# Altium footprint library WR-DC.PcbLib: 18 footprints (part 1 of 2)
Each footprint in its own frame and in the unit in brackets; x right, y up, seen from the top. Pads: shape width x height; smd on the part's side, far side on the other; paste and mask are expansions set on the pad; w line width, h text height; cw(c..) or ccw(c..) is an arc to the next point about the centre after c.
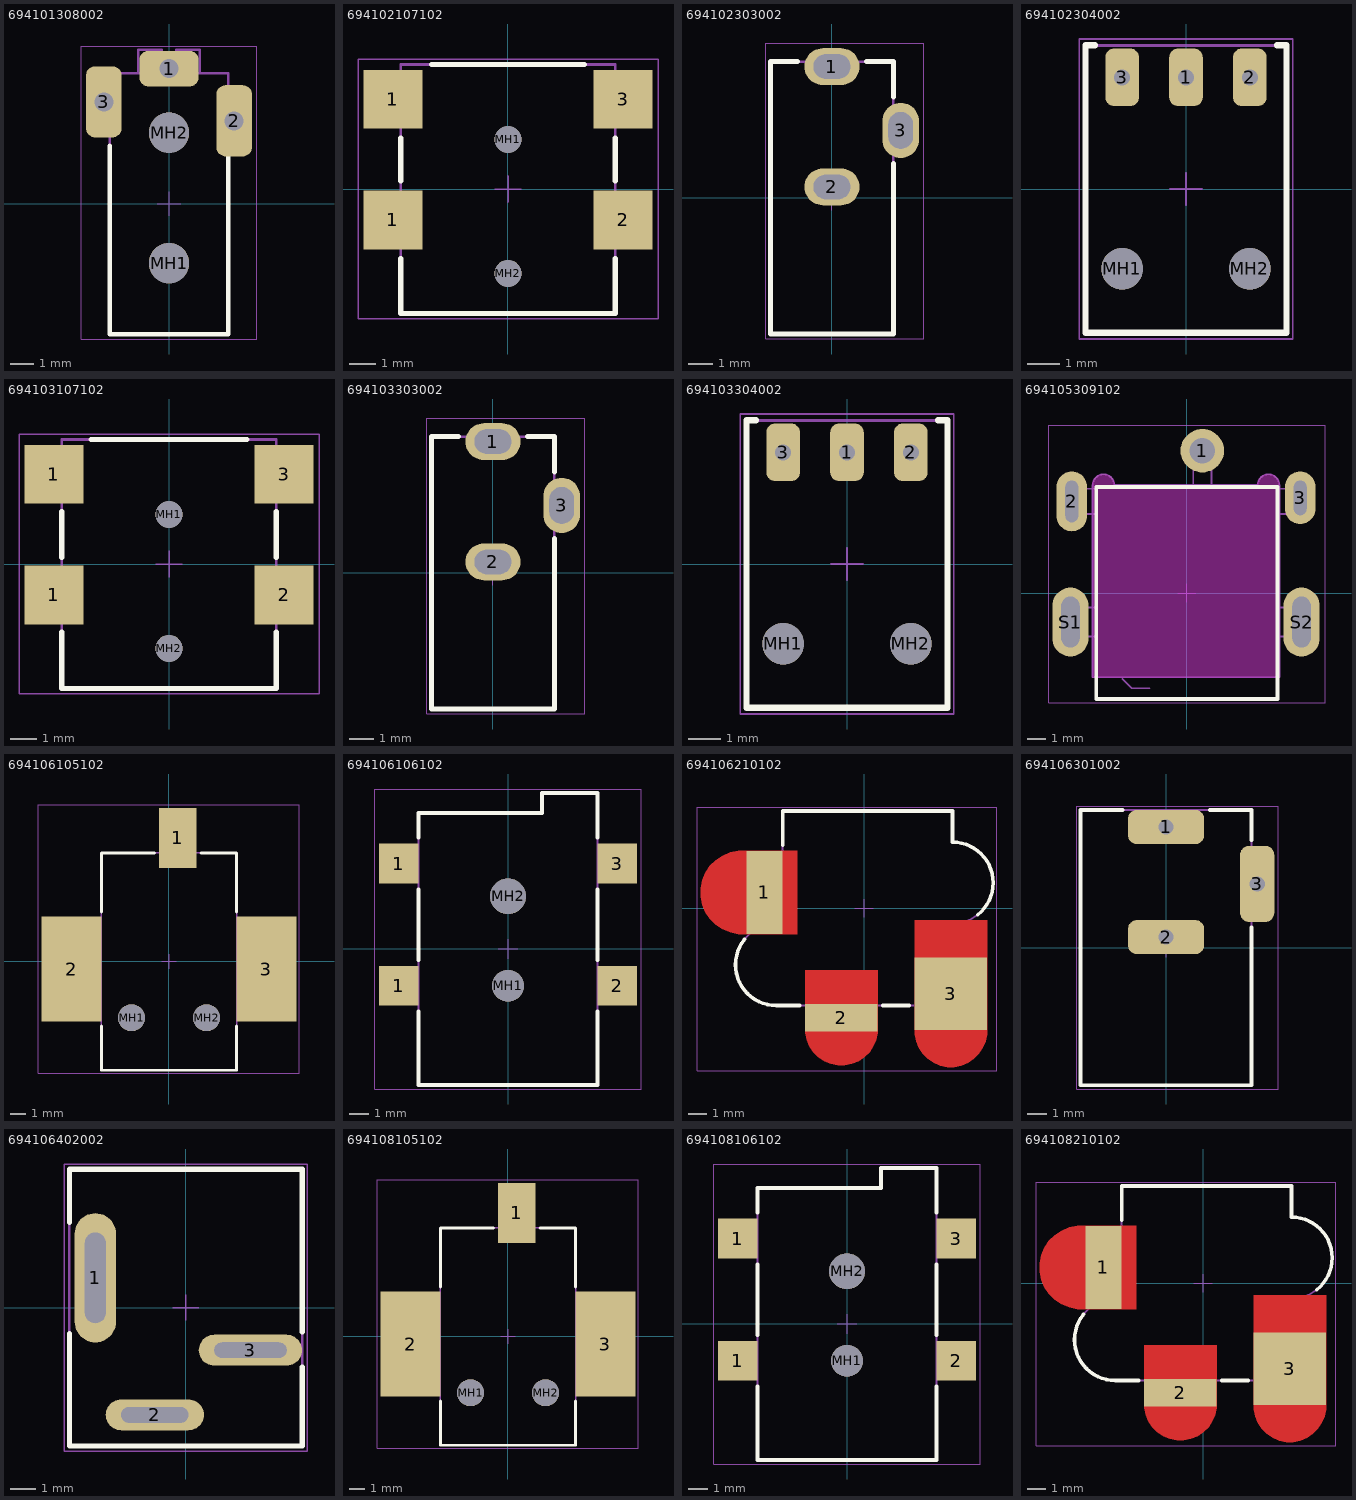
[diagram p0: the footprints below, top view; thin cyan lines are the x and y axes]

## 694101308002 [mm] "DC Power Jack THT Right Angled Low Profile(2.8)"
height 5
pads (5):
  rrect50% 2.5x1.5 hole 0.8 square: 1(0,5.7)
  rrect50% 1.5x3 hole 0.8 square: 2(2.75,3.5) 3(-2.75,4.3)
  round 1.7 hole 1.7 unplated: MH1(0,-2.5) MH2(0,3)
Top Overlay:
  lines w0.2: -2.5,2.45 -2.5,-5.5 2.5,-5.5 2.5,2.45
Top Designator:
  text ".Designator" at -7.498,-0.5 h1.5
Top Component Outline:
  lines w0.1: -1.3,5.5 -1.3,6.5 -0.3,6.5 -0.3,5.5 ; 0.3,5.5 0.3,6.5 1.3,6.5 1.3,5.5 ; -2.5,-5.5 -2.5,5.5 2.5,5.5 2.5,-5.5 -2.5,-5.5
Top 3D Body:
  lines w0.1: -1.3,5.5 -1.3,6.5 -0.3,6.5 -0.3,5.5 ; 0.3,5.5 0.3,6.5 1.3,6.5 1.3,5.5 ; -2.5,-5.5 2.5,-5.5 2.5,5.5 -2.5,5.5 -2.5,-5.5
Top Courtyard:
  lines w0.05: -0.5,0 0.5,0 ; 0,-0.5 0,0.5 ; -3.7,-5.7 -3.7,6.65 3.7,6.65 3.7,-5.7 -3.7,-5.7
3D body "694101308002.stp": height 5.05, standoff -2.25, extent -2.9,-5.5 2.9,6.5

## 694102107102 [mm] "DC Power Jack Right Angled Low Profile SMT ?3.9 with 4 soldering pads & pegs"
height 5.3
pads (6):
  rect 2.2x2.2 smd: 1(-4.3,-1.15) 1(-4.3,3.35) 2(4.3,-1.15) 3(4.3,3.35)
  round 1 hole 1 unplated: MH1(0,1.85) MH2(0,-3.15)
Top Overlay:
  lines w0.2: -4,-2.6 -4,-4.65 4,-4.65 4,-2.6 ; -4,0.3 -4,1.9 ; -2.85,4.65 2.85,4.65 ; 4,0.3 4,1.9
Top Designator:
  text ".Designator" at -7.498,-0.5 h1.5
Top Component Outline:
  lines w0.1: -4,-1.95 -4.9,-1.95 -4.9,-0.35 -4,-0.35 ; -4,2.55 -4.9,2.55 -4.9,4.15 -4,4.15 ; 4,-1.95 4.9,-1.95 4.9,-0.35 4,-0.35 ; 4,2.55 4.9,2.55 4.9,4.15 4,4.15 ; -4,-4.65 4,-4.65 4,4.65 -4,4.65 -4,-4.65
Top 3D Body:
  lines w0.1: -4,-1.95 -4.9,-1.95 -4.9,-0.35 -4,-0.35 ; -4,2.55 -4.9,2.55 -4.9,4.15 -4,4.15 ; 4,-1.95 4.9,-1.95 4.9,-0.35 4,-0.35 ; 4,2.55 4.9,2.55 4.9,4.15 4,4.15 ; -4,-4.65 -4,4.65 4,4.65 4,-4.65 -4,-4.65
Top Courtyard:
  lines w0.05: -0.5,0 0.5,0 ; 0,-0.5 0,0.5 ; -5.6,-4.85 5.6,-4.85 5.6,4.85 -5.6,4.85 -5.6,-4.85
3D body "694102107102.stp": height 5.32, standoff -0.78, extent -4.9,-4.65 4.9,4.65

## 694102303002 [mm] "DC Power Jack Right Angled(4.2)"
height 7.4
pads (3):
  oval 2.25x1.5 hole 1 slot 1.5 at 0 deg: 1(0,5.35) 2(0,0.45)
  oval 1.5x2.25 hole 1 slot 1.5 at 90 deg: 3(2.8,2.75)
Top Overlay:
  lines w0.2: -1.4,5.55 -2.5,5.55 -2.5,-5.55 2.5,-5.55 2.5,1.4 ; 1.4,5.55 2.5,5.55 2.5,4.1
Top Designator:
  text ".Designator" at -7.498,-0.5 h1.5
Top Component Outline:
  lines w0.1: -2.5,-5.55 -2.5,5.55 2.5,5.55 2.5,-5.55 -2.5,-5.55
Top 3D Body:
  lines w0.1: -2.5,-5.55 2.5,-5.55 2.5,5.55 -2.5,5.55 -2.5,-5.55
Top Courtyard:
  lines w0.05: -0.5,0 0.5,0 ; 0,-0.5 0,0.5 ; -2.7,-5.75 3.75,-5.75 3.75,6.3 -2.7,6.3 -2.7,-5.75
3D body "694102303002.stp": height 7.8, standoff -2.6, extent -2.5,-5.55 3,5.75

## 694102304002 [mm] "DC Power Jack THT Right Angled Low Profile(3.8)"
height 5
pads (5):
  rrect50% 1.05x1.8 hole 0.5 square: 1(0,3.5) 2(2,3.5) 3(-2,3.5)
  round 1.3 hole 1.3 unplated: MH1(-2,-2.5) MH2(2,-2.5)
Top Overlay:
  lines w0.2: -2.85,4.5 -3.15,4.5 -3.15,-4.5 3.15,-4.5 3.15,4.5 ; 2.85,4.5 3.15,4.5 ; 3.15,4.5 3.15,4.5
Top Designator:
  text ".Designator" at -7.498,-0.5 h1.5
Top Component Outline:
  lines w0.1: -3.15,-4.5 3.15,-4.5 3.15,4.5 -3.15,4.5 -3.15,-4.5
Top 3D Body:
  lines w0.1: -3.15,-4.5 -3.15,4.5 3.15,4.5 3.15,-4.5 -3.15,-4.5
Top Courtyard:
  lines w0.05: -0.5,0 0.5,0 ; 0,-0.5 0,0.5 ; -3.35,-4.7 -3.35,4.7 3.35,4.7 3.35,-4.7 -3.35,-4.7
3D body "694102304002.stp": height 5.05, standoff -3, extent -3.15,-4.5 3.15,4.5

## 694103107102 [mm] "DC Power Jack Right Angled Low Profile SMT ?3.9 with 4 soldering pads & pegs"
height 5.3
pads (6):
  rect 2.2x2.2 smd: 1(-4.3,-1.15) 1(-4.3,3.35) 2(4.3,-1.15) 3(4.3,3.35)
  round 1 hole 1 unplated: MH1(0,1.85) MH2(0,-3.15)
Top Overlay:
  lines w0.2: -4,-2.55 -4,-4.65 4,-4.65 4,-2.55 ; -4,0.25 -4,1.95 ; -2.9,4.65 2.9,4.65 ; 4,0.25 4,1.95
Top Designator:
  text ".Designator" at -7.498,-0.5 h1.5
Top Component Outline:
  lines w0.1: -4,-1.95 -4.9,-1.95 -4.9,-0.35 -4,-0.35 ; -4,2.55 -4.9,2.55 -4.9,4.15 -4,4.15 ; 4,-1.95 4.9,-1.95 4.9,-0.35 4,-0.35 ; 4,2.55 4.9,2.55 4.9,4.15 4,4.15 ; -4,-4.65 4,-4.65 4,4.65 -4,4.65 -4,-4.65
Top 3D Body:
  lines w0.1: -4,-1.95 -4.9,-1.95 -4.9,-0.35 -4,-0.35 ; -4,2.55 -4.9,2.55 -4.9,4.15 -4,4.15 ; 4,-1.95 4.9,-1.95 4.9,-0.35 4,-0.35 ; 4,2.55 4.9,2.55 4.9,4.15 4,4.15 ; -4,-4.65 -4,4.65 4,4.65 4,-4.65 -4,-4.65
Top Courtyard:
  lines w0.05: -0.5,0 0.5,0 ; 0,-0.5 0,0.5 ; -5.6,-4.85 5.6,-4.85 5.6,4.85 -5.6,4.85 -5.6,-4.85
3D body "694103107102.stp": height 5.3, standoff -0.8, extent -4.9,-4.65 4.9,4.65

## 694103303002 [mm] "DC Power Jack Right Angled(4.2)"
height 7.4
pads (3):
  oval 2.25x1.5 hole 1 slot 1.5 at 0 deg: 1(0,5.35) 2(0,0.45)
  oval 1.5x2.25 hole 1 slot 1.5 at 90 deg: 3(2.8,2.75)
Top Overlay:
  lines w0.2: -1.4,5.55 -2.5,5.55 -2.5,-5.55 2.5,-5.55 2.5,1.4 ; 1.4,5.55 2.5,5.55 2.5,4.1
Top Designator:
  text ".Designator" at -7.498,-0.5 h1.5
Top Component Outline:
  lines w0.1: -2.5,-5.55 -2.5,5.55 2.5,5.55 2.5,-5.55 -2.5,-5.55
Top 3D Body:
  lines w0.1: -2.5,-5.55 2.5,-5.55 2.5,5.55 -2.5,5.55 -2.5,-5.55
Top Courtyard:
  lines w0.05: -0.5,0 0.5,0 ; 0,-0.5 0,0.5 ; -2.7,-5.75 3.75,-5.75 3.75,6.3 -2.7,6.3 -2.7,-5.75
3D body "694103303002.stp": height 7.8, standoff -2.6, extent -2.5,-5.55 3,5.75

## 694103304002 [mm] "DC Power Jack THT Right Angled Low Profile(3.8)"
height 5
pads (5):
  rrect50% 1.05x1.8 hole 0.5 square: 1(0,3.5) 2(2,3.5) 3(-2,3.5)
  round 1.3 hole 1.3 unplated: MH1(-2,-2.5) MH2(2,-2.5)
Top Overlay:
  lines w0.2: -2.85,4.5 -3.15,4.5 -3.15,-4.5 3.15,-4.5 3.15,4.5 ; 2.85,4.5 3.15,4.5 ; 3.15,4.5 3.15,4.5
Top Designator:
  text ".Designator" at -7.498,-0.5 h1.5
Top Component Outline:
  lines w0.1: -3.15,-4.5 3.15,-4.5 3.15,4.5 -3.15,4.5 -3.15,-4.5
Top 3D Body:
  lines w0.1: -3.15,-4.5 -3.15,4.5 3.15,4.5 3.15,-4.5 -3.15,-4.5
Top Courtyard:
  lines w0.05: -0.5,0 0.5,0 ; 0,-0.5 0,0.5 ; -3.35,-4.7 -3.35,4.7 3.35,4.7 3.35,-4.7 -3.35,-4.7
3D body "694103304002.stp": height 5.1, standoff -2.95, extent -3.15,-4.5 3.15,4.5

## 694105309102 [mm] "DC Power Jack Right Angled Shielded THT ?4.93"
height 9.1
pads (5):
  round 2.4 hole 1.4: 1(0.85,7.85)
  oval 1.7x3.3 hole 0.7 slot 2.3 at 90 deg: 2(-6.35,5.05)
  oval 1.7x2.9 hole 0.7 slot 1.9 at 90 deg: 3(6.25,5.25)
  oval 2x3.8 hole 1 slot 2.8 at 90 deg: S1(-6.425,-1.6) S2(6.325,-1.6)
Top Overlay:
  lines w0.2: -5,-5.85 5,-5.85 5,5.85 -5,5.85 -5,-5.85
Keep-Out Layer:
  board cut-out: -5.2,-4.65 5.1,-4.65 5.1,5.95 5.1,6.069 5.009,6.29 4.84,6.459 4.619,6.55 4.381,6.55 4.16,6.459 3.991,6.29 3.9,6.069 3.9,5.95 -4,5.95 -4,6.069 -4.091,6.29 -4.26,6.459 -4.481,6.55 -4.719,6.55 -4.94,6.459 -5.109,6.29 -5.2,6.069 -5.2,5.95
Notes:
  lines w0.1: -3.55,-4.75 -3.05,-5.25 -2.05,-5.25
  text "PCB Edge" at -1.82,-5.57 h1
Top Designator:
  text ".Designator" at -7.498,-0.5 h1.5
Mechanical 8:
  lines w0.1: -5.2,-4.65 -5.2,5.95 cw(c-4.6,5.95) -4,5.95 3.9,5.95 cw(c4.5,5.95) 5.1,5.95 5.1,-4.65 -5.2,-4.65
  text "Board Cutout Area" at -3.55,-0.25 h1
Top Component Outline:
  lines w0.1: -5,-2.4 -6.375,-2.4 -6.375,-0.8 -5,-0.8 ; -5,4.35 -6.375,4.35 -6.375,5.75 -5,5.75 ; 0.35,5.85 0.35,8.35 1.35,8.35 1.35,5.85 ; 5,-2.4 6.375,-2.4 6.375,-0.8 5,-0.8 ; 5,4.35 6.375,4.35 6.375,5.75 5,5.75 ; -5,-5.85 5,-5.85 5,5.85 -5,5.85 -5,-5.85
Top 3D Body:
  lines w0.1: -5,-2.4 -6.375,-2.4 -6.375,-0.8 -5,-0.8 ; -5,4.35 -6.375,4.35 -6.375,5.75 -5,5.75 ; 0.35,5.85 0.35,8.35 1.35,8.35 1.35,5.85 ; 5,-2.4 6.375,-2.4 6.375,-0.8 5,-0.8 ; 5,4.35 6.375,4.35 6.375,5.75 5,5.75 ; -5,-5.85 -5,5.85 5,5.85 5,-5.85 -5,-5.85
Top Courtyard:
  lines w0.05: -0.5,0 0.5,0 ; 0,-0.5 0,0.5 ; -7.625,-6.05 7.625,-6.05 7.625,9.25 -7.625,9.25 -7.625,-6.05
3D body "694105309102.stp": height 5.45, standoff -3.65, extent -6.61,-5.85 6.51,8.35

## 694106105102 [mm] "DC Power Jack Right Angled SMT ?6.4 with pegs"
height 11
pads (5):
  rect 2.5x4 smd: 1(0.6,8.25)
  rect 4x7 smd: 2(-6.5,-0.5) 3(6.5,-0.5)
  round 1.8 hole 1.8 unplated: MH1(-2.5,-3.75) MH2(2.5,-3.75)
Top Overlay:
  lines w0.2: -4.5,-4.3 -4.5,-7.25 4.5,-7.25 4.5,-4.3 ; -4.5,3.3 -4.5,7.25 -0.95,7.25 ; 2.15,7.25 4.5,7.25 4.5,3.3
Top Designator:
  text ".Designator" at -7.498,-0.5 h1.5
Top Component Outline:
  lines w0.1: -4.5,-2.8 -7.6,-2.8 -7.6,1.8 -4.5,1.8 ; -0.3,7.25 -0.3,9.75 1.5,9.75 1.5,7.25 ; 4.5,-2.8 7.6,-2.8 7.6,1.8 4.5,1.8 ; -4.5,-7.25 4.5,-7.25 4.5,7.25 -4.5,7.25 -4.5,-7.25
Top 3D Body:
  lines w0.1: -4.5,-2.8 -7.6,-2.8 -7.6,1.8 -4.5,1.8 ; -0.3,7.25 -0.3,9.75 1.5,9.75 1.5,7.25 ; 4.5,-2.8 7.6,-2.8 7.6,1.8 4.5,1.8 ; -4.5,-7.25 -4.5,7.25 4.5,7.25 4.5,-7.25 -4.5,-7.25
Top Courtyard:
  lines w0.05: -0.5,0 0.5,0 ; 0,-0.5 0,0.5 ; -8.7,-7.45 8.7,-7.45 8.7,10.45 -8.7,10.45 -8.7,-7.45
3D body "694106105102.stp": height 11.05, standoff -1.95, extent -7.6,-7.25 7.6,9.75

## 694106106102 [mm] "DC Power Jack Right Angled SMT ?6.4 with 4 soldering pads & pegs"
height 11
pads (6):
  rect 2x2 smd: 1(-5.5,-1.85) 1(-5.5,4.3) 2(5.5,-1.85) 3(5.5,4.3)
  round 1.6 hole 1.6 unplated: MH1(0,-1.85)
  round 1.8 hole 1.8 unplated: MH2(0,2.65)
Top Overlay:
  lines w0.2: -4.5,-3.15 -4.5,-6.85 4.5,-6.85 4.5,-3.15 ; -4.5,-0.55 -4.5,3 ; -4.5,5.6 -4.5,6.85 1.7,6.85 1.7,7.85 4.5,7.85 4.5,5.6 ; 4.5,-0.55 4.5,3
Top Designator:
  text ".Designator" at -7.498,-0.5 h1.5
Top Component Outline:
  lines w0.1: -4.5,-2.6 -6.25,-2.6 -6.25,-1.1 -4.5,-1.1 ; -4.5,3.55 -6.25,3.55 -6.25,5.05 -4.5,5.05 ; 4.5,-2.6 6.25,-2.6 6.25,-1.1 4.5,-1.1 ; 4.5,3.55 6.25,3.55 6.25,5.05 4.5,5.05 ; -4.5,-6.85 4.5,-6.85 4.5,7.85 1.7,7.85 1.7,6.85 -4.5,6.85 -4.5,-6.85
Top 3D Body:
  lines w0.1: -4.5,-2.6 -6.25,-2.6 -6.25,-1.1 -4.5,-1.1 ; -4.5,3.55 -6.25,3.55 -6.25,5.05 -4.5,5.05 ; 4.5,-2.6 6.25,-2.6 6.25,-1.1 4.5,-1.1 ; 4.5,3.55 6.25,3.55 6.25,5.05 4.5,5.05 ; -4.5,-6.85 -4.5,6.85 1.7,6.85 1.7,7.85 4.5,7.85 4.5,-6.85 -4.5,-6.85
Top Courtyard:
  lines w0.05: -0.5,0 0.5,0 ; 0,-0.5 0,0.5 ; -6.7,-7.05 6.7,-7.05 6.7,8.05 -6.7,8.05 -6.7,-7.05
3D body "694106106102.stp": height 11.05, standoff -1.15, extent -6.25,-6.85 6.25,7.85

## 694106210102 [mm] "DC Power Jack Connector Vertical SMT ?5.5 with 3 Solder Pads"
height 11
pads (3):
  rect 2x4.6 smd paste-403.566 mask-403.566: 1(-5.5,0.875)
  rect 4x1.5 smd paste-403.566 mask-403.566: 2(-1.25,-6.05)
  rect 4x4 smd paste-403.566 mask-403.566: 3(4.8,-4.725)
Top Layer:
  region: 2.8,-6.775 2.8,-0.675 6.8,-0.675 6.8,-6.775 6.8,-6.972 6.723,-7.358 6.572,-7.722 6.354,-8.05 6.075,-8.328 5.747,-8.547 5.383,-8.698 4.997,-8.775 4.603,-8.775 4.217,-8.698 3.853,-8.547 3.525,-8.328 3.246,-8.05 3.028,-7.722 2.877,-7.358 2.8,-6.972
  region: -3.25,-6.675 -3.25,-6.872 -3.173,-7.258 -3.022,-7.622 -2.804,-7.95 -2.525,-8.229 -2.197,-8.447 -1.833,-8.598 -1.447,-8.675 -1.053,-8.675 -0.667,-8.598 -0.303,-8.447 0.025,-8.229 0.304,-7.95 0.522,-7.622 0.673,-7.258 0.75,-6.872 0.75,-6.675 0.75,-3.425 -3.25,-3.425
  region: -6.73,-1.425 -6.957,-1.425 -7.401,-1.337 -7.819,-1.163 -8.196,-0.912 -8.517,-0.591 -8.768,-0.214 -8.942,0.204 -9.03,0.648 -9.03,1.102 -8.942,1.546 -8.768,1.964 -8.517,2.341 -8.196,2.662 -7.819,2.913 -7.401,3.087 -6.957,3.175 -6.73,3.175 -3.7,3.175 -3.7,-1.425
Top Overlay:
  lines w0.2: -6.607,-1.719 ccw(c-4.85,-3.125) -4.85,-5.375 -3.55,-5.375 ; -4.5,3.475 -4.5,5.375 4.888,5.375 4.888,3.655 cw(c4.888,1.405) 6.286,-0.358 ; 1.05,-5.375 2.5,-5.375
Top Designator:
  text ".Designator" at -7.498,-0.5 h1.5
Top Component Outline:
  lines w0.1: -4.5,-0.902 ccw(c-4.85,-3.125) -4.85,-5.375 4.888,-5.375 4.888,-0.845 ccw(c4.888,1.405) 4.888,3.655 4.888,5.375 -4.5,5.375 -4.5,-0.9
Top 3D Body:
  lines w0.1: -4.5,-0.902 ccw(c-4.85,-3.125) -4.85,-5.375 4.888,-5.375 4.888,-0.845 ccw(c4.888,1.405) 4.888,3.655 4.888,5.375 -4.5,5.375 -4.5,-0.9
Top Courtyard:
  lines w0.05: -0.5,0 0.5,0 ; 0,-0.5 0,0.5 ; -9.23,-8.975 7.35,-8.975 7.35,5.575 -9.23,5.575 -9.23,-8.975
3D body "694106210102.stp": height 14.05, standoff 0.05, extent -8.35,-8.225 7.138,5.375

## 694106301002 [mm] "DC Power Jack Right Angled(6.4)"
height 10.7
pads (3):
  rrect50% 4x1.8 hole 0.8 square: 1(0,6.35) 2(0,0.55)
  rrect50% 1.8x4 hole 0.8 square: 3(4.8,3.35)
Top Overlay:
  lines w0.2: -2.3,7.25 -4.5,7.25 -4.5,-7.25 4.5,-7.25 4.5,1.05 ; 2.3,7.25 4.5,7.25 4.5,5.65
Top Designator:
  text ".Designator" at -7.498,-0.5 h1.5
Top Component Outline:
  lines w0.1: -4.5,-7.25 4.5,-7.25 4.5,7.25 -4.5,7.25 -4.5,-7.25
Top 3D Body:
  lines w0.1: -4.5,-7.25 -4.5,7.25 4.5,7.25 4.5,-7.25 -4.5,-7.25
Top Courtyard:
  lines w0.05: -0.5,0 0.5,0 ; 0,-0.5 0,0.5 ; -4.7,-7.45 5.9,-7.45 5.9,7.45 -4.7,7.45 -4.7,-7.45
3D body "694106301002.stp": height 10.75, standoff -3.75, extent -4.5,-7.25 5,7.25

## 694106402002 [mm] "DC Power Jack Vertical THT ?6.4"
height 14
pads (3):
  oval 1.6x5 hole 0.8 slot 3.5 at 90 deg: 1(-3.5,1.15)
  oval 3.8x1.2 hole 0.6 slot 2.6 at 0 deg: 2(-1.2,-4.15)
  oval 4x1.2 hole 0.6 slot 2.8 at 0 deg: 3(2.5,-1.65)
Top Overlay:
  lines w0.2: -4.5,-1 -4.5,-5.35 4.5,-5.35 4.5,-2.3 ; -4.5,3.3 -4.5,5.35 4.5,5.35 4.5,-0.95
Top Designator:
  text ".Designator" at -7.498,-0.5 h1.5
Top Component Outline:
  lines w0.1: -4.5,-5.35 4.5,-5.35 4.5,5.35 ; -4.5,-5.35 -4.5,5.35 4.5,5.35
Top 3D Body:
  lines w0.1: -4.5,-5.35 4.5,-5.35 4.5,5.35 ; -4.5,-5.35 -4.5,5.35 4.5,5.35
Top Courtyard:
  lines w0.05: -0.5,0 0.5,0 ; 0,-0.5 0,0.5 ; -4.7,-5.55 4.7,-5.55 4.7,5.55 -4.7,5.55 -4.7,-5.55
3D body "694106402002.stp": height 14.1, standoff -3.5, extent -4.5,-5.35 4.5,5.35

## 694108105102 [mm] "DC Power Jack Right Angled SMT ?6.4 with pegs"
height 11
pads (5):
  rect 2.5x4 smd: 1(0.6,8.25)
  rect 4x7 smd: 2(-6.5,-0.5) 3(6.5,-0.5)
  round 1.8 hole 1.8 unplated: MH1(-2.5,-3.75) MH2(2.5,-3.75)
Top Overlay:
  lines w0.2: -4.5,-4.3 -4.5,-7.25 4.5,-7.25 4.5,-4.3 ; -4.5,3.3 -4.5,7.25 -0.95,7.25 ; 2.15,7.25 4.5,7.25 4.5,3.3
Top Designator:
  text ".Designator" at -7.498,-0.5 h1.5
Top Component Outline:
  lines w0.1: -4.5,-2.8 -7.6,-2.8 -7.6,1.8 -4.5,1.8 ; -0.3,7.25 -0.3,9.75 1.5,9.75 1.5,7.25 ; 4.5,-2.8 7.6,-2.8 7.6,1.8 4.5,1.8 ; -4.5,-7.25 -4.5,7.25 4.5,7.25 4.5,-7.25 -4.5,-7.25
Top 3D Body:
  lines w0.1: -4.5,-2.8 -7.6,-2.8 -7.6,1.8 -4.5,1.8 ; -0.3,7.25 -0.3,9.75 1.5,9.75 1.5,7.25 ; 4.5,-2.8 7.6,-2.8 7.6,1.8 4.5,1.8 ; -4.5,-7.25 4.5,-7.25 4.5,7.25 -4.5,7.25 -4.5,-7.25
Top Courtyard:
  lines w0.05: -0.5,0 0.5,0 ; 0,-0.5 0,0.5 ; -8.7,-7.45 -8.7,10.45 8.7,10.45 8.7,-7.45 -8.7,-7.45
3D body "694108105102.stp": height 11.05, standoff -1.95, extent -7.6,-7.25 7.6,9.75

## 694108106102 [mm] "DC Power Jack Right Angled SMT ?6.4 with 4 soldering pads & pegs"
height 11
pads (6):
  rect 2x2 smd: 1(-5.5,-1.85) 1(-5.5,4.3) 2(5.5,-1.85) 3(5.5,4.3)
  round 1.6 hole 1.6 unplated: MH1(0,-1.85)
  round 1.8 hole 1.8 unplated: MH2(0,2.65)
Top Overlay:
  lines w0.2: -4.5,-3.15 -4.5,-6.85 4.5,-6.85 4.5,-3.15 ; -4.5,-0.55 -4.5,3 ; -4.5,5.6 -4.5,6.85 1.7,6.85 1.7,7.85 4.5,7.85 4.5,5.6 ; 4.5,-0.55 4.5,3
Top Designator:
  text ".Designator" at -7.498,-0.5 h1.5
Top Component Outline:
  lines w0.1: -4.5,-2.6 -6.25,-2.6 -6.25,-1.1 -4.5,-1.1 ; -4.5,3.55 -6.25,3.55 -6.25,5.05 -4.5,5.05 ; 4.5,-2.6 6.25,-2.6 6.25,-1.1 4.5,-1.1 ; 4.5,3.55 6.25,3.55 6.25,5.05 4.5,5.05 ; -4.5,-6.85 4.5,-6.85 4.5,7.85 1.7,7.85 1.7,6.85 -4.5,6.85 -4.5,-6.85
Top 3D Body:
  lines w0.1: -4.5,-2.6 -6.25,-2.6 -6.25,-1.1 -4.5,-1.1 ; -4.5,3.55 -6.25,3.55 -6.25,5.05 -4.5,5.05 ; 4.5,-2.6 6.25,-2.6 6.25,-1.1 4.5,-1.1 ; 4.5,3.55 6.25,3.55 6.25,5.05 4.5,5.05 ; -4.5,-6.85 -4.5,6.85 1.7,6.85 1.7,7.85 4.5,7.85 4.5,-6.85 -4.5,-6.85
Top Courtyard:
  lines w0.05: -0.5,0 0.5,0 ; 0,-0.5 0,0.5 ; -6.7,-7.05 6.7,-7.05 6.7,8.05 -6.7,8.05 -6.7,-7.05
3D body "694108106102.stp": height 11.05, standoff -1.15, extent -6.25,-6.85 6.25,7.85

## 694108210102 [mm] "DC Power Jack Connector Vertical SMT ?5.5 with 3 Solder Pads"
height 11
pads (3):
  rect 2x4.6 smd paste-403.566 mask-403.566: 1(-5.5,0.875)
  rect 4x1.5 smd paste-403.566 mask-403.566: 2(-1.25,-6.05)
  rect 4x4 smd paste-403.566 mask-403.566: 3(4.8,-4.725)
Top Layer:
  region: -6.73,-1.425 -6.957,-1.425 -7.401,-1.337 -7.819,-1.163 -8.196,-0.912 -8.517,-0.591 -8.768,-0.214 -8.942,0.204 -9.03,0.648 -9.03,1.102 -8.942,1.546 -8.768,1.964 -8.517,2.341 -8.196,2.662 -7.819,2.913 -7.401,3.087 -6.957,3.175 -6.73,3.175 -3.7,3.175 -3.7,-1.425
  region: -3.25,-6.675 -3.25,-6.872 -3.173,-7.258 -3.022,-7.622 -2.804,-7.95 -2.525,-8.229 -2.197,-8.447 -1.833,-8.598 -1.447,-8.675 -1.053,-8.675 -0.667,-8.598 -0.303,-8.447 0.025,-8.229 0.304,-7.95 0.522,-7.622 0.673,-7.258 0.75,-6.872 0.75,-6.675 0.75,-3.425 -3.25,-3.425
  region: 2.8,-6.775 2.8,-0.675 6.8,-0.675 6.8,-6.775 6.8,-6.972 6.723,-7.358 6.572,-7.722 6.354,-8.05 6.075,-8.328 5.747,-8.547 5.383,-8.698 4.997,-8.775 4.603,-8.775 4.217,-8.698 3.853,-8.547 3.525,-8.328 3.246,-8.05 3.028,-7.722 2.877,-7.358 2.8,-6.972
Top Overlay:
  lines w0.2: -6.607,-1.719 ccw(c-4.85,-3.125) -4.85,-5.375 -3.55,-5.375 ; -4.5,3.475 -4.5,5.375 4.888,5.375 4.888,3.655 cw(c4.888,1.405) 6.286,-0.358 ; 1.05,-5.375 2.5,-5.375
Top Designator:
  text ".Designator" at -7.498,-0.5 h1.5
Top Component Outline:
  lines w0.1: -4.5,-0.902 ccw(c-4.85,-3.125) -4.85,-5.375 4.888,-5.375 4.888,-0.845 ccw(c4.888,1.405) 4.888,3.655 4.888,5.375 -4.5,5.375 -4.5,-0.9
Top 3D Body:
  lines w0.1: -4.5,-0.902 ccw(c-4.85,-3.125) -4.85,-5.375 4.888,-5.375 4.888,-0.845 ccw(c4.888,1.405) 4.888,3.655 4.888,5.375 -4.5,5.375 -4.5,-0.9
Top Courtyard:
  lines w0.05: -0.5,0 0.5,0 ; 0,-0.5 0,0.5 ; -9.23,-8.975 -9.23,5.575 7.35,5.575 7.35,-8.975 -9.23,-8.975
3D body "694108210102.stp": height 14.05, standoff 0.05, extent -8.353,-8.225 7.135,5.375